# EAGLE library part CY8C4013SXI-400 (library NicksParts)
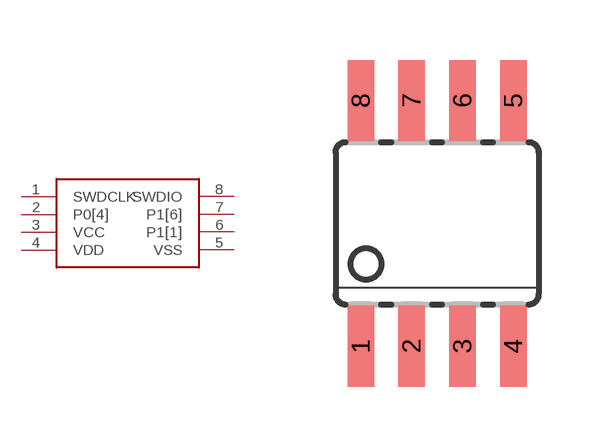
[diagram p19: symbol with the pads of SOIC08; footprint SOIC08]

Designator prefix U

## CY8C4013SXI-400  [SOIC08]
1  SWDCLK
2  P0[4]
3  VCC
4  VDD
5  VSS
6  P1[1]
7  P1[6]
8  SWDIO

## Footprint SOIC08 (pad centres in mm)
Small Outline Package
smd 0.66 x 2.032: 1 -1.905,-3.073; 2 -0.635,-3.073; 3 0.635,-3.073; 4 1.905,-3.073; 5 1.905,3.073; 6 0.635,3.073; 7 -0.635,3.073; 8 -1.905,3.073